# Altium schematic symbol library Schlib1.SchLib: 7 symbols
Pins are listed as number, name and electrical type; pins without a type are passive.

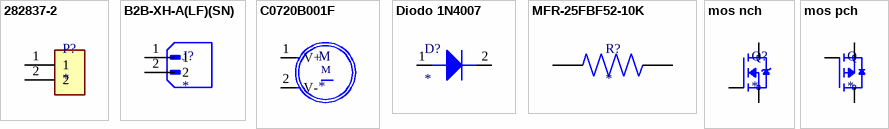
[diagram p0: symbols 282837-2 to mos pch]

## 282837-2
designator P?
Ð Ð°Ð·ÑŠÐµÐ¼Ð½Ñ‹Ðµ ÐºÐ»ÐµÐ¼Ð¼Ð½Ñ‹Ðµ ÐºÐ¾Ð»Ð¾Ð´ÐºÐ¸ Ð Ð¾Ð·ÐµÑ‚ÐºÐ° 2 Ð¿Ð¾Ð»Ð¾Ð¶ÐµÐ½Ð¸Ñ 5,08 Ð¼Ð¼ ÐŸÑ€Ð¸Ð¿Ð¾Ð¹ Ð¿Ñ€ÑÐ¼Ð¾Ð¹ Ñ‡ÐµÑ€ÐµÐ· Ð¾Ñ‚Ð²ÐµÑ€ÑÑ‚Ð¸Ðµ 13,5 Ð / ÐºÐ¾Ð½Ñ‚Ð°ÐºÑ‚; MF: TE Connectivity; MP: 282837-2; SnapEDA_Link: https://www.snapeda.com/parts/282837-2/TE+Connectivity+AMP+Connectors/view-part/?ref=snap; Price: None; Check_prices: https://www.snapeda.com/parts/282837-2/TE+Connectivity+AMP+Connectors/view-part/?ref=eda; Purchase-URL: https://pricing.snapeda.com/search/part/282837-2/?ref=eda; Value: *; Availability: In Stock; Package: None
footprint TE_282837-2
pins: 1, 2

## B2B-XH-A(LF)(SN)
designator J?
Connector Header Through Hole 2 position 0.098 (2.50mm); MF: JST Sales America Inc.; MP: B2B-XH-A(LF)(SN); SnapEDA_Link: https://www.snapeda.com/parts/B2B-XH-A(LF)(SN)/JST+Sales+America+Inc./view-part/?ref=snap; Package: None; Value: *; Check_prices: https://www.snapeda.com/parts/B2B-XH-A(LF)(SN)/JST+Sales+America+Inc./view-part/?ref=eda
footprint JST_B2B-XH-A(LF)(SN)
pins: 1, 2

## C0720B001F
designator M
DC Motor Vibration, ERM 10000 RPM 3VDC; MP: C0720B001F; MF: Jinlong Machinery; Availability: Unavailable; SnapEDA_Link: https://www.snapeda.com/parts/C0720B001F/Jinlong%20Machinery%20%26%20Electronics%2C%20Inc./view-part/645169/?ref=snap; Value: *; Price: None; Package: Jinlong Machinery
footprint XDCR_C0720B001F
pins: 1 V+ (power), 2 V- (power)

## Diodo 1N4007
designator D?
footprint Diodo 1N4007
pins: 1, 2

## MFR-25FBF52-10K
designator R?
10.2 kOhms Â±1% 0.25W, 1/4W Through Hole Resistor Axial - Metal Film; MF: Yageo; MP: MFR-25FBF52-10K; SnapEDA_Link: https://www.snapeda.com/parts/MFR-25FBF52-10K/Yageo/view-part/?ref=snap; Availability: In Stock; Price: None; Value: *; Check_prices: https://www.snapeda.com/parts/MFR-25FBF52-10K/Yageo/view-part/?ref=eda; Purchase-URL: https://pricing.snapeda.com/search/part/MFR-25FBF52-10K/?ref=eda; Package: Axial Yageo
footprint RESAD1100W55L680D260
pins: 1, 2

## mos nch
designator Q?
N-Channel 55 V 75A (Tc) 170W (Tc) Through Hole TO-220AB; MP: IRF3205ZPBF; MF: Infineon Technologies; SnapEDA_Link: https://www.snapeda.com/parts/IRF3205ZPBF/Infineon+Technologies/view-part/?ref=snap; Availability: In Stock; Package: TO-220 Vishay; Check_prices: https://www.snapeda.com/parts/IRF3205ZPBF/Infineon+Technologies/view-part/?ref=eda; Value: *; Purchase-URL: https://pricing.snapeda.com/search/part/IRF3205ZPBF/?ref=eda; Price: None
footprint mos nch
pins: 1 G, 2 D, 3 S

## mos pch
designator Q
RoHS Compliant | Low RDS(on) | Industry-leading quality | Dynamic dv/dt Rating | Fast Switching | Fully Avalanche Rated | 175C Operating Temperature | P-Channel MOSFET; MP: IRF9540NPBF; MF: Infineon Technologies; DigiKey-Purchase-URL: https://snapeda.com/shop?store=DigiKey&id=2766497; Package: TO-220 Vishay; SnapEDA_Link: https://www.snapeda.com/parts/IRF9540NPBF/Infineon%20Technologies/view-part/2766497/?ref=snap; Mouser-Purchase-URL: https://snapeda.com/shop?store=Mouser&id=2766497; Arrow_Americas-Purchase-URL: https://snapeda.com/shop?store=Arrow+Americas&id=2766497; Value: *
footprint mos pch
pins: 1 G, 2 D, 3 S